# Altium footprint library MOLEX KK 0022272101.PCBLIB: 1 footprints
Each footprint in its own frame and in the unit in brackets; x right, y up, seen from the top. Pads: shape width x height; smd on the part's side, far side on the other; paste and mask are expansions set on the pad; w line width, h text height; cw(c..) or ccw(c..) is an arc to the next point about the centre after c.
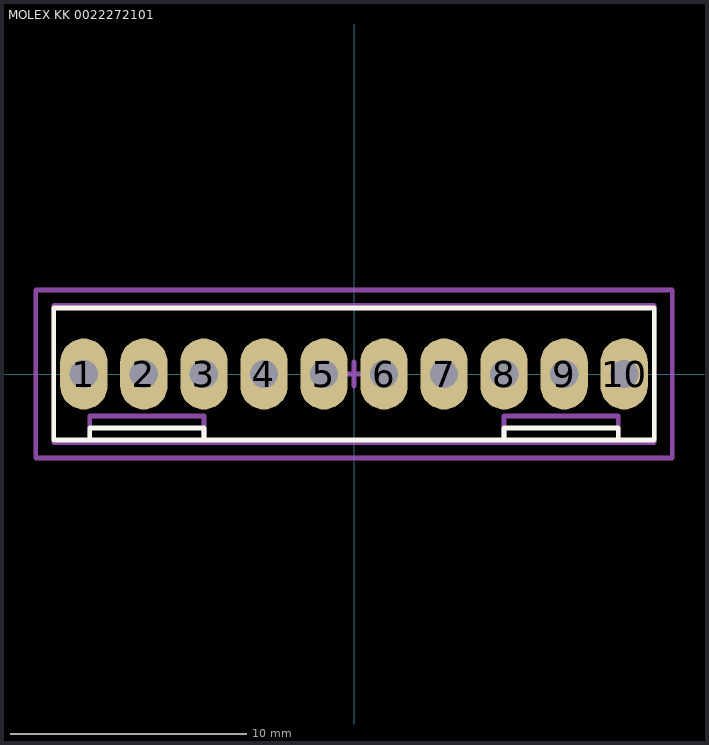
[diagram p0: the footprint, top view; thin cyan lines are the x and y axes]

## MOLEX KK 0022272101 [mm]
height 11.6
pads (10):
  oval 2x3 hole 1.2: 1(-11.43,0) 2(-8.89,0) 3(-6.35,0) 4(-3.81,0) 5(-1.27,0) 6(1.27,0) 7(3.81,0) 8(6.35,0) 9(8.89,0) 10(11.43,0)
Top Overlay:
  lines w0.2: -11.176,-2.794 -11.176,-2.286 -6.35,-2.286 -6.35,-2.794 ; 6.35,-2.794 6.35,-2.286 11.176,-2.286 11.176,-2.794 ; -12.7,-2.794 12.7,-2.794 12.7,2.794 -12.7,2.794 -12.7,-2.794
Mechanical 13:
  lines w0.2: -11.176,-2.9 -11.176,-1.778 -6.35,-1.778 -6.35,-2.9 ; 6.35,-2.9 6.35,-1.778 11.176,-1.778 11.176,-2.9 ; -12.7,-2.9 -12.7,2.9 12.7,2.9 12.7,-2.9 -12.7,-2.9
Mechanical 15:
  lines w0.2: -0.508,0 0.508,0 ; 0,-0.508 0,0.508 ; -13.462,-3.556 -13.462,3.556 13.462,3.556 13.462,-1.016 13.462,-3.556 -13.462,-3.556
3D body "MOLEX KK 022272101.STEP": height 11.7, standoff -3.56, extent -12.7,-2.9 12.7,2.9